# Altium footprint library ATACS_PCB.PcbLib: 20 footprints (part 2 of 2)
Each footprint in its own frame and in the unit in brackets; x right, y up, seen from the top. Pads: shape width x height; smd on the part's side, far side on the other; paste and mask are expansions set on the pad; w line width, h text height; cw(c..) or ccw(c..) is an arc to the next point about the centre after c.
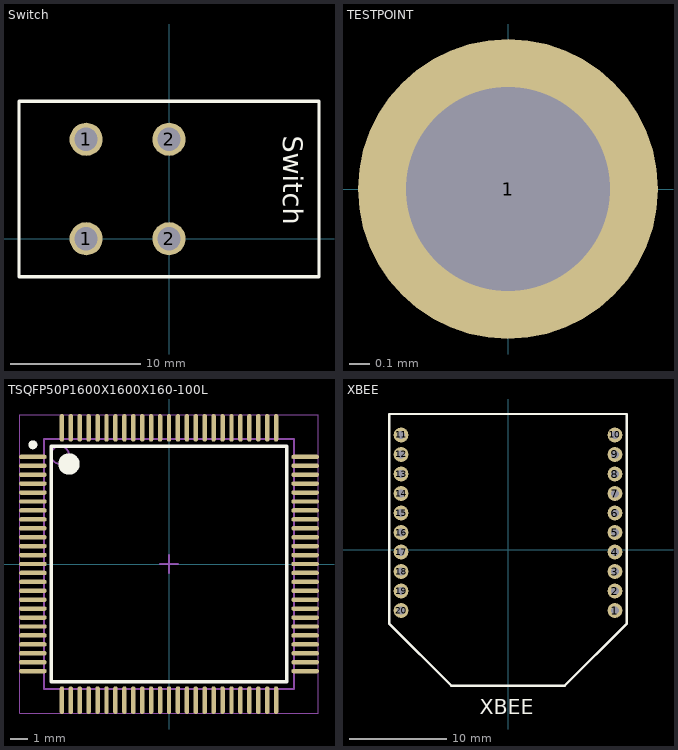
[diagram p1: the footprints below, top view; thin cyan lines are the x and y axes]

## Switch [mil]
pads (4):
  round 100 hole 70: 1(-250,0) 1(-250,300) 2(0,0) 2(0,300)
Top Overlay:
  lines w10: -452.56,-114.96 -452.56,414.96 452.56,414.96 452.56,-114.96 -452.56,-114.96
  text "Switch" at 345,310 h60

## TESTPOINT [mm]
pads (1):
  round 1.5 hole 1.02: 1(0,0)

## TSQFP50P1600X1600X160-100L [mm] "TSQFP, 100-Leads, Body 14.00x14.00mm, Pitch 0.50mm, IPC High Density"
height 1.6
pads (100):
  oval 1.55x0.25 smd: 1(-7.625,6) 2(-7.625,5.5) 3(-7.625,5) 4(-7.625,4.5) 5(-7.625,4) 6(-7.625,3.5) 7(-7.625,3) 8(-7.625,2.5) 9(-7.625,2) 10(-7.625,1.5) 11(-7.625,1) 12(-7.625,0.5) 13(-7.625,0) 14(-7.625,-0.5) 15(-7.625,-1) 16(-7.625,-1.5) 17(-7.625,-2) 18(-7.625,-2.5) 19(-7.625,-3) 20(-7.625,-3.5) 21(-7.625,-4) 22(-7.625,-4.5) 23(-7.625,-5) 24(-7.625,-5.5) 25(-7.625,-6) 51(7.625,-6) 52(7.625,-5.5) 53(7.625,-5) 54(7.625,-4.5) 55(7.625,-4) 56(7.625,-3.5) 57(7.625,-3) 58(7.625,-2.5) 59(7.625,-2) 60(7.625,-1.5) 61(7.625,-1) 62(7.625,-0.5) 63(7.625,0) 64(7.625,0.5) 65(7.625,1) 66(7.625,1.5) 67(7.625,2) 68(7.625,2.5) 69(7.625,3) 70(7.625,3.5) 71(7.625,4) 72(7.625,4.5) 73(7.625,5) 74(7.625,5.5) 75(7.625,6)
  oval 0.25x1.55 smd: 26(-6,-7.625) 27(-5.5,-7.625) 28(-5,-7.625) 29(-4.5,-7.625) 30(-4,-7.625) 31(-3.5,-7.625) 32(-3,-7.625) 33(-2.5,-7.625) 34(-2,-7.625) 35(-1.5,-7.625) 36(-1,-7.625) 37(-0.5,-7.625) 38(0,-7.625) 39(0.5,-7.625) 40(1,-7.625) 41(1.5,-7.625) 42(2,-7.625) 43(2.5,-7.625) 44(3,-7.625) 45(3.5,-7.625) 46(4,-7.625) 47(4.5,-7.625) 48(5,-7.625) 49(5.5,-7.625) 50(6,-7.625) 76(6,7.625) 77(5.5,7.625) 78(5,7.625) 79(4.5,7.625) 80(4,7.625) 81(3.5,7.625) 82(3,7.625) 83(2.5,7.625) 84(2,7.625) 85(1.5,7.625) 86(1,7.625) 87(0.5,7.625) 88(0,7.625) 89(-0.5,7.625) 90(-1,7.625) 91(-1.5,7.625) 92(-2,7.625) 93(-2.5,7.625) 94(-3,7.625) 95(-3.5,7.625) 96(-4,7.625) 97(-4.5,7.625) 98(-5,7.625) 99(-5.5,7.625) 100(-6,7.625)
Top Overlay:
  circle w0.25: c-7.625,6.675 r0.125
  circle w0.6: c-5.6,5.6 r0.3
  lines w0.2: -6.6,-6.6 -6.6,6.6 6.6,6.6 6.6,-6.6 -6.6,-6.6
Mechanical 13:
  circle w0.1: c-6.1,6.1 r0.5
  lines w0.1: -7,-7 -7,7 7,7 7,-7 -7,-7
Mechanical 15:
  lines w0.05: -8.35,-8.35 -8.35,8.35 8.35,8.35 8.35,-8.35 -8.35,-8.35
  lines w0.1: -0.5,0 0.5,0 ; 0,-0.5 0,0.5
3D body "TSQFP50P1600X1600X160-100L.step": height 1.6, standoff 0, extent -8,-8 8,8

## XBEE [mil] "XBEE S2C"
pads (20):
  round 60 hole 33: 1(433,-246) 2(433,-167) 3(433,-88) 4(433,-9) 5(433,70) 6(433,149) 7(433,228) 8(433,307) 9(433,386) 10(433,465) 11(-433,465) 12(-433,386) 13(-433,307) 14(-433,228) 15(-433,149) 16(-433,70) 17(-433,-9) 18(-433,-88) 19(-433,-167) 20(-433,-246)
Top Overlay:
  lines w10: -480,-300 -480,550 480,550 480,-300 230,-550 -230,-550 -480,-300
  text "." at 520,-250 h60
  text "XBEE" at -115,-665 h60